# Altium schematic symbol library Conectores.SchLib: 6 symbols
Pins are listed as number, name and electrical type; pins without a type are passive.

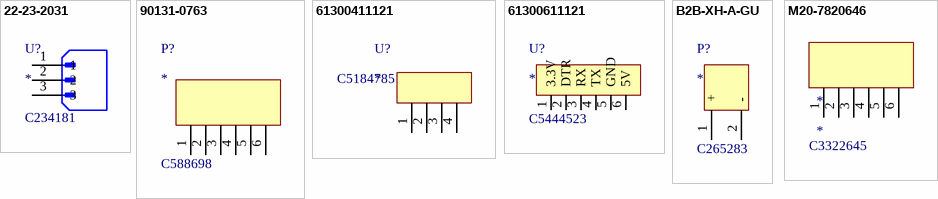
[diagram p0: symbols 22-23-2031 to M20-7820646]

## 22-23-2031
designator U?  LCSC: C234181
KK 254 Solid Header, Vertical, with Friction Lock, 3 Circuits, Tin (Sn) Plating, Bag; Manufacturer: Molex; Manufacturer Lifecycle Status: ACTIVE; Approvals: CSA, UL; Contact Resistance: 10mΩ; Current Rating: 4A; Dielectric Material: Polyamide; Gender: Male; Glow Wire Compliant: Non-compliant; Insulation Resistance: 1GΩ; Number of Circuits: 2; Number of Contacts: 3; Number of Lines: 1; Operating Force: 4.8928N; Pitch: 2.54mm; Plating Thickness: 2.54µm; Voltage Rating: 500V; Voltage Rating (DC): 250V; Supplier: DigiKey; Supplier Part Number: WM4201-ND; Manufacturer Part Number: 22-23-2031; RoHS: Compliant; Category: Headers and Wire Housings; Stock: 60929; Pricing: 1=0,22, 10=0,189, 100=0,1608, 500=0,1435, 2000=0,13012, 6000=0,12041, 10000=0,11614 (USD); China RoHS: Compliant; Color: White; Contact Gender: Male; Contact Material: Brass; Contact Plating: Tin; Country of Origin: US; Depth: 6.35mm; Flammability Rating: UL94 V-0; Halogen Free: Low Halogen; Height: 10mm; Housing Color: White; Housing Material: Nylon; Lead Free: Lead Free; Lead Pitch: 2.54mm; Length: 10mm; Lifecycle Status: Production; Max Current Rating: 4A; Max Operating Temperature: 75°C; Min Operating Temperature: 0°C; Mounting Technology: Through Hole; Pins: 3; Number of Poles: 3; Number of Positions: 3; Number of Rows: 1; Orientation: Vertical; Packaging: Bulk; Radiation Hardening: No; REACH SVHC: Yes; Schedule B: 8536694040, 8536694040|8536694040|8536694040|8536694040|8536694040|8536694040|8536694040|8536694040|8536694040|8536694040|8536694040|8536694040|8536694040|8536694040|8536694040|8536694040|8536694040|8536694040|8536694040|8536694040|8536694040|8536694040|8536694040|85; Terminal Pitch: 2.54mm; Termination: Solder; Width: 10mm; ComponentLink1URL: https://sigma.octopart.com:443/153641738/technical_drawing/Molex-22232031.pdf?src-supplier=Sager+Electronics; ComponentLink1Description: https://sigma.octopart.com:443/153641738/technical_drawing/Molex-22232031.pdf?src-supplier=Sager+Electronics; ComponentLink2URL: https://datasheet.octopart.com:443/0022232031-Molex-datasheet-164461539.pdf?src-supplier=Sager+Electronics; ComponentLink2Description: https://datasheet.octopart.com:443/0022232031-Molex-datasheet-164461539.pdf?src-supplier=Sager+Electronics; ComponentLink3URL: https://datasheet.octopart.com:443/22-23-2031-Molex-datasheet-10979265.pdf?src-supplier=Upverter; ComponentLink3Description: https://datasheet.octopart.com:443/22-23-2031-Molex-datasheet-10979265.pdf?src-supplier=Upverter; ComponentLink4URL: https://datasheet.octopart.com:443/22-23-2031-Molex-datasheet-8803345.pdf?src-supplier=Upverter; ComponentLink4Description: https://datasheet.octopart.com:443/22-23-2031-Molex-datasheet-8803345.pdf?src-supplier=Upverter; ComponentLink5URL: https://datasheet.octopart.com:443/022232031-Molex-datasheet-8349839.pdf?src-supplier=Upverter; ComponentLink5Description: https://datasheet.octopart.com:443/022232031-Molex-datasheet-8349839.pdf?src-supplier=Upverter; ComponentLink6URL: https://datasheet.octopart.com:443/22-23-2031-Molex-datasheet-137053720.pdf?src-supplier=IHS; ComponentLink6Description: https://datasheet.octopart.com:443/22-23-2031-Molex-datasheet-137053720.pdf?src-supplier=IHS; ComponentLink7URL: https://datasheet.octopart.com:443/A-6373-03A222-Molex-datasheet-11014486.pdf?src-supplier=IHS; ComponentLink7Description: https://datasheet.octopart.com:443/A-6373-03A222-Molex-datasheet-11014486.pdf?src-supplier=IHS; ComponentLink8URL: https://datasheet.octopart.com:443/22-23-2031-Molex-datasheet-13784869.pdf?src-supplier=Molex; ComponentLink8Description: https://datasheet.octopart.com:443/22-23-2031-Molex-datasheet-13784869.pdf?src-supplier=Molex; ComponentLink9URL: https://sigma.octopart.com:443/16295904/technical_drawing/Molex-22-23-2031.pdf?src-supplier=Molex; ComponentLink9Description: https://sigma.octopart.com:443/16295904/technical_drawing/Molex-22-23-2031.pdf?src-supplier=Molex; ComponentLink10URL: https://datasheet.octopart.com:443/22-23-2031-Molex-datasheet-154747105.pdf?src-supplier=Master+Electronics; ComponentLink10Description: https://datasheet.octopart.com:443/22-23-2031-Molex-datasheet-154747105.pdf?src-supplier=Master+Electronics; ComponentLink11URL: https://datasheet.octopart.com:443/22-23-2031-Molex-datasheet-101581837.pdf?src-supplier=Farnell; ComponentLink11Description: https://datasheet.octopart.com:443/22-23-2031-Molex-datasheet-101581837.pdf?src-supplier=Farnell; ComponentLink12URL: https://datasheet.octopart.com:443/22-23-2031-Molex-datasheet-6994.pdf?src-supplier=Farnell; ComponentLink12Description: https://datasheet.octopart.com:443/22-23-2031-Molex-datasheet-6994.pdf?src-supplier=Farnell; ComponentLink13URL: https://datasheet.octopart.com:443/22-23-2031-Molex-datasheet-15766289.pdf?src-supplier=Farnell; ComponentLink13Description: https://datasheet.octopart.com:443/22-23-2031-Molex-datasheet-15766289.pdf?src-supplier=Farnell; ComponentLink14URL: https://datasheet.octopart.com:443/22-23-2031-Molex-datasheet-11538079.pdf?src-supplier=Farnell; ComponentLink14Description: https://datasheet.octopart.com:443/22-23-2031-Molex-datasheet-11538079.pdf?src-supplier=Farnell; ComponentLink15URL: https://datasheet.octopart.com:443/22-23-2031-Molex-datasheet-21538527.pdf?src-supplier=Electro+Sonic; ComponentLink15Description: https://datasheet.octopart.com:443/22-23-2031-Molex-datasheet-21538527.pdf?src-supplier=Electro+Sonic; ComponentLink16URL: https://datasheet.octopart.com:443/22-23-2031-Molex-datasheet-62103463.pdf?src-supplier=Electro+Sonic; ComponentLink16Description: https://datasheet.octopart.com:443/22-23-2031-Molex-datasheet-62103463.pdf?src-supplier=Electro+Sonic; ComponentLink17URL: https://datasheet.octopart.com:443/22-23-2031-Molex-datasheet-37168844.pdf?src-supplier=Electro+Sonic; ComponentLink17Description: https://datasheet.octopart.com:443/22-23-2031-Molex-datasheet-37168844.pdf?src-supplier=Electro+Sonic; ComponentLink18URL: https://datasheet.octopart.com:443/22-23-2031-Molex-datasheet-26579529.pdf?src-supplier=TME; ComponentLink18Description: https://datasheet.octopart.com:443/22-23-2031-Molex-datasheet-26579529.pdf?src-supplier=TME; ComponentLink19URL: https://datasheet.octopart.com:443/22-23-2031-Molex-datasheet-140181014.pdf?src-supplier=RS+(Formerly+Allied+Electronics); ComponentLink19Description: https://datasheet.octopart.com:443/22-23-2031-Molex-datasheet-140181014.pdf?src-supplier=RS+(Formerly+Allied+Electronics); ComponentLink20URL: https://datasheet.octopart.com:443/22-23-2031-Molex-datasheet-120145304.pdf?src-supplier=RS+(Formerly+Allied+Electronics); ComponentLink20Description: https://datasheet.octopart.com:443/22-23-2031-Molex-datasheet-120145304.pdf?src-supplier=RS+(Formerly+Allied+Electronics); ComponentLink21URL: https://datasheet.octopart.com:443/22-23-2031-Molex-datasheet-9904594.pdf?src-supplier=RS+(Formerly+Allied+Electronics); ComponentLink21Description: https://datasheet.octopart.com:443/22-23-2031-Molex-datasheet-9904594.pdf?src-supplier=RS+(Formerly+Allied+Electronics); ComponentLink22URL: https://datasheet.octopart.com:443/22-23-2031-Molex-datasheet-36197.pdf?src-supplier=RS+(Formerly+Allied+Electronics); ComponentLink22Description: https://datasheet.octopart.com:443/22-23-2031-Molex-datasheet-36197.pdf?src-supplier=RS+(Formerly+Allied+Electronics); ComponentLink23URL: https://datasheet.octopart.com:443/22232031-Molex-datasheet-137316104.pdf?src-supplier=Future+Electronics; ComponentLink23Description: https://datasheet.octopart.com:443/22232031-Molex-datasheet-137316104.pdf?src-supplier=Future+Electronics; ComponentLink24URL: https://datasheet.octopart.com:443/22-23-2031-Molex-datasheet-33002316.pdf?src-supplier=Newark; ComponentLink24Description: https://datasheet.octopart.com:443/22-23-2031-Molex-datasheet-33002316.pdf?src-supplier=Newark; ComponentLink25URL: https://datasheet.octopart.com:443/22-23-2031-Molex-datasheet-21206926.pdf?src-supplier=Newark; ComponentLink25Description: https://datasheet.octopart.com:443/22-23-2031-Molex-datasheet-21206926.pdf?src-supplier=Newark; ComponentLink26URL: https://datasheet.octopart.com:443/0022232031-Molex-datasheet-11893140.pdf?src-supplier=Arrow+Electronics; ComponentLink26Description: https://datasheet.octopart.com:443/0022232031-Molex-datasheet-11893140.pdf?src-supplier=Arrow+Electronics; ComponentLink27URL: https://datasheet.octopart.com:443/0022232031-Molex-datasheet-11631538.pdf?src-supplier=Arrow+Electronics; ComponentLink27Description: https://datasheet.octopart.com:443/0022232031-Molex-datasheet-11631538.pdf?src-supplier=Arrow+Electronics; ComponentLink28URL: https://datasheet.octopart.com:443/22-23-2031-Molex-datasheet-8399138.pdf?src-supplier=Verical; ComponentLink28Description: https://datasheet.octopart.com:443/22-23-2031-Molex-datasheet-8399138.pdf?src-supplier=Verical; ComponentLink29URL: https://datasheet.octopart.com:443/22-23-2031-Molex-datasheet-8339045.pdf?src-supplier=Verical; ComponentLink29Description: https://datasheet.octopart.com:443/22-23-2031-Molex-datasheet-8339045.pdf?src-supplier=Verical; ComponentLink30URL: https://datasheet.octopart.com:443/22232031-Molex-datasheet-7831523.pdf?src-supplier=Jameco; ComponentLink30Description: https://datasheet.octopart.com:443/22232031-Molex-datasheet-7831523.pdf?src-supplier=Jameco; ComponentLink31URL: https://datasheet.octopart.com:443/22-23-2031-Molex-datasheet-7276997.pdf?src-supplier=Jameco; ComponentLink31Description: https://datasheet.octopart.com:443/22-23-2031-Molex-datasheet-7276997.pdf?src-supplier=Jameco; ComponentLink32URL: https://datasheet.octopart.com:443/22-23-2031-Molex-datasheet-145352.pdf?src-supplier=DigiKey; ComponentLink32Description: https://datasheet.octopart.com:443/22-23-2031-Molex-datasheet-145352.pdf?src-supplier=DigiKey; ComponentLink33URL: http://sigma.octopart.com:80/16297233/rohs_statement/Molex-22-23-2031.pdf?src-supplier=Compliance+Statements; ComponentLink33Description: http://sigma.octopart.com:80/16297233/rohs_statement/Molex-22-23-2031.pdf?src-supplier=Compliance+Statements; ComponentLink34URL: http://sigma.octopart.com:80/conflict_mineral_statement/Molex-company-72.pdf?src-supplier=Compliance+Statements; ComponentLink34Description: http://sigma.octopart.com:80/conflict_mineral_statement/Molex-company-72.pdf?src-supplier=Compliance+Statements; ComponentLink35URL: http://sigma.octopart.com:80/rohs_statement/Molex-company-73.pdf?src-supplier=Compliance+Statements; ComponentLink35Description: http://sigma.octopart.com:80/rohs_statement/Molex-company-73.pdf?src-supplier=Compliance+Statements; ComponentLink36URL: http://sigma.octopart.com:80/reach_statement/Molex-company-74.pdf?src-supplier=Compliance+Statements; ComponentLink36Description: http://sigma.octopart.com:80/reach_statement/Molex-company-74.pdf?src-supplier=Compliance+Statements
footprint conector3pinos
pins: 1, 2, 3

## 90131-0763
designator P?  LCSC: C588698
Conector STLINK; Manufacturer: Molex; Manufacturer Part Number: 90131-0763; Manufacturer Lifecycle Status: ACTIVE; Contact Resistance: 20mΩ; Current Rating: 3A; Gender: Male; Insulation Resistance: 5GΩ; Number of Circuits: 6; Operating Force: 973mN; Pitch: 2.54mm; Plating: Tin; Plating Thickness: 381nm; Voltage Rating: 350V; Supplier: DigiKey; Supplier Part Number: WM8139-ND; RoHS: Compliant; Category: Headers and Wire Housings; Stock: 9119; Pricing: 1=1,65, 10=1,4, 100=1,1895, 800=1,0271, 1600=0,97808, 5600=0,89539, 10400=0,85718 (USD); China RoHS: Compliant; Contact Gender: Male; Contact Material: Gold, Nickel; Contact Plating: Gold; Country of Origin: SG; Height: 9.65mm; Housing Color: Black; Housing Material: Polyester; Lead Free: Lead Free; Lead Pitch: 2.54mm; Lifecycle Status: Production; Material: Glass, Polyester; Max Operating Temperature: 125°C; Min Operating Temperature: -55°C; Mounting Technology: Through Hole; Number of Contacts: 6; Pins: 6; Number of Poles: 6; Number of Positions: 6; Number of Rows: 2; Orientation: Vertical; Radiation Hardening: No; REACH SVHC: Yes; Row Spacing: 2.54mm; Schedule B: 8536694040, 8536694040|8536694040|8536694040|8536694040|8536694040|8536694040|8536694040|8536694040|8536694040|8536694040|8536694040|8536694040|8536694040|8536694040|8536694040|8536694040|8536694040|8536694040|8536694040|8536694040|8536694040|8536694040|8536694040|85; Terminal Pitch: 2.54mm; Termination: Through Hole; Voltage Rating (AC): 350V; Voltage Rating (DC): 350V; Working Voltage: 350V; ComponentLink1URL: https://datasheet.octopart.com:443/90131-0763-Molex-datasheet-141422385.pdf?src-supplier=IHS; ComponentLink1Description: https://datasheet.octopart.com:443/90131-0763-Molex-datasheet-141422385.pdf?src-supplier=IHS; ComponentLink2URL: https://datasheet.octopart.com:443/90131-0763-Molex-datasheet-13786679.pdf?src-supplier=Sager+Electronics; ComponentLink2Description: https://datasheet.octopart.com:443/90131-0763-Molex-datasheet-13786679.pdf?src-supplier=Sager+Electronics; ComponentLink3URL: https://datasheet.octopart.com:443/0901310763-Molex-datasheet-158267589.pdf?src-supplier=Sager+Electronics; ComponentLink3Description: https://datasheet.octopart.com:443/0901310763-Molex-datasheet-158267589.pdf?src-supplier=Sager+Electronics; ComponentLink4URL: https://datasheet.octopart.com:443/90131-0763-Molex-datasheet-101584004.pdf?src-supplier=element14+APAC; ComponentLink4Description: https://datasheet.octopart.com:443/90131-0763-Molex-datasheet-101584004.pdf?src-supplier=element14+APAC; ComponentLink5URL: https://datasheet.octopart.com:443/90131-0763-Molex-datasheet-154760981.pdf?src-supplier=Master+Electronics; ComponentLink5Description: https://datasheet.octopart.com:443/90131-0763-Molex-datasheet-154760981.pdf?src-supplier=Master+Electronics; ComponentLink6URL: https://datasheet.octopart.com:443/90131-0763-Molex-datasheet-140189868.pdf?src-supplier=RS+(Formerly+Allied+Electronics); ComponentLink6Description: https://datasheet.octopart.com:443/90131-0763-Molex-datasheet-140189868.pdf?src-supplier=RS+(Formerly+Allied+Electronics); ComponentLink7URL: https://datasheet.octopart.com:443/90131-0763-Molex-datasheet-120158967.pdf?src-supplier=RS+(Formerly+Allied+Electronics); ComponentLink7Description: https://datasheet.octopart.com:443/90131-0763-Molex-datasheet-120158967.pdf?src-supplier=RS+(Formerly+Allied+Electronics); ComponentLink8URL: https://datasheet.octopart.com:443/90131-0763-Molex-datasheet-34442414.pdf?src-supplier=RS+(Formerly+Allied+Electronics); ComponentLink8Description: https://datasheet.octopart.com:443/90131-0763-Molex-datasheet-34442414.pdf?src-supplier=RS+(Formerly+Allied+Electronics); ComponentLink9URL: https://datasheet.octopart.com:443/90131-0763-Molex-datasheet-62106567.pdf?src-supplier=Electro+Sonic; ComponentLink9Description: https://datasheet.octopart.com:443/90131-0763-Molex-datasheet-62106567.pdf?src-supplier=Electro+Sonic; ComponentLink10URL: https://datasheet.octopart.com:443/90131-0763-Molex-datasheet-37173065.pdf?src-supplier=Electro+Sonic; ComponentLink10Description: https://datasheet.octopart.com:443/90131-0763-Molex-datasheet-37173065.pdf?src-supplier=Electro+Sonic; ComponentLink11URL: https://datasheet.octopart.com:443/90131-0763-Molex-datasheet-23711474.pdf?src-supplier=Electro+Sonic; ComponentLink11Description: https://datasheet.octopart.com:443/90131-0763-Molex-datasheet-23711474.pdf?src-supplier=Electro+Sonic; ComponentLink12URL: https://datasheet.octopart.com:443/90131-0763-Molex-datasheet-33004657.pdf?src-supplier=Newark; ComponentLink12Description: https://datasheet.octopart.com:443/90131-0763-Molex-datasheet-33004657.pdf?src-supplier=Newark; ComponentLink13URL: https://datasheet.octopart.com:443/90131-0763-Molex-datasheet-13548877.pdf?src-supplier=Farnell; ComponentLink13Description: https://datasheet.octopart.com:443/90131-0763-Molex-datasheet-13548877.pdf?src-supplier=Farnell; ComponentLink14URL: https://datasheet.octopart.com:443/90131-0763-Molex-datasheet-10978908.pdf?src-supplier=Farnell; ComponentLink14Description: https://datasheet.octopart.com:443/90131-0763-Molex-datasheet-10978908.pdf?src-supplier=Farnell; ComponentLink15URL: https://datasheet.octopart.com:443/90131-0763-Molex-datasheet-531206.pdf?src-supplier=Farnell; ComponentLink15Description: https://datasheet.octopart.com:443/90131-0763-Molex-datasheet-531206.pdf?src-supplier=Farnell; ComponentLink16URL: https://datasheet.octopart.com:443/90131-0763-Molex-datasheet-5392624.pdf?src-supplier=Verical; ComponentLink16Description: https://datasheet.octopart.com:443/90131-0763-Molex-datasheet-5392624.pdf?src-supplier=Verical; ComponentLink17URL: https://datasheet.octopart.com:443/90131-0763-Molex-datasheet-124887.pdf?src-supplier=DigiKey; ComponentLink17Description: https://datasheet.octopart.com:443/90131-0763-Molex-datasheet-124887.pdf?src-supplier=DigiKey; ComponentLink18URL: http://sigma.octopart.com:80/conflict_mineral_statement/Molex-company-72.pdf?src-supplier=Compliance+Statements; ComponentLink18Description: http://sigma.octopart.com:80/conflict_mineral_statement/Molex-company-72.pdf?src-supplier=Compliance+Statements; ComponentLink19URL: http://sigma.octopart.com:80/rohs_statement/Molex-company-73.pdf?src-supplier=Compliance+Statements; ComponentLink19Description: http://sigma.octopart.com:80/rohs_statement/Molex-company-73.pdf?src-supplier=Compliance+Statements; ComponentLink20URL: http://sigma.octopart.com:80/reach_statement/Molex-company-74.pdf?src-supplier=Compliance+Statements; ComponentLink20Description: http://sigma.octopart.com:80/reach_statement/Molex-company-74.pdf?src-supplier=Compliance+Statements
footprint conector6pinos2linhas
pins: 1, 2, 3, 4, 5, 6

## 61300411121
designator U?  LCSC: C5184785
Led RGB; Manufacturer: Wurth Elektronik; Manufacturer Part Number: 61300411121; Connector Type: Male Pin; Contact Resistance: 20mΩ; Current Rating: 3A; Gender: Male; Number of Contacts: 4; Operating Supply Voltage: 250V; Pitch: 2.54mm; Supplier: DigiKey; Supplier Part Number: 732-5317-ND; RoHS: Compliant; Category: Headers and Wire Housings; Stock: 89389; Pricing: 1=0,17, 10=0,147, 25=0,1216, 50=0,1018, 100=0,0918, 1000=0,085 (USD); Color: Black; Contact Material: Gold; Contact Mating Length: 5.9944mm; Contact Plating: Gold; Height: 8.89mm; Lead Free: Lead Free; Lead Pitch: 2.54mm; Max Operating Temperature: 105°C; Min Operating Temperature: -40°C; Mounting Technology: Through Hole; Pins: 4; Number of Positions: 4; Number of Rows: 1; Orientation: Vertical; Packaging: Bulk; Termination: Solder; Voltage Rating: 250V; ComponentLink1URL: https://datasheet.octopart.com:443/61300411121-W%C3%BCrth-Elektronik-datasheet-44382959.pdf?src-supplier=Future+Electronics; ComponentLink1Description: https://datasheet.octopart.com:443/61300411121-W%C3%BCrth-Elektronik-datasheet-44382959.pdf?src-supplier=Future+Electronics; ComponentLink2URL: https://datasheet.octopart.com:443/61300411121-W%C3%BCrth-Elektronik-datasheet-149524049.pdf?src-supplier=Farnell; ComponentLink2Description: https://datasheet.octopart.com:443/61300411121-W%C3%BCrth-Elektronik-datasheet-149524049.pdf?src-supplier=Farnell; ComponentLink3URL: https://datasheet.octopart.com:443/61300411121-W%C3%BCrth-Elektronik-datasheet-21154836.pdf?src-supplier=element14+APAC; ComponentLink3Description: https://datasheet.octopart.com:443/61300411121-W%C3%BCrth-Elektronik-datasheet-21154836.pdf?src-supplier=element14+APAC; ComponentLink4URL: https://datasheet.octopart.com:443/61300411121-Wurth-Elektronik-datasheet-169474491.pdf?src-supplier=RS+(Formerly+Allied+Electronics); ComponentLink4Description: https://datasheet.octopart.com:443/61300411121-Wurth-Elektronik-datasheet-169474491.pdf?src-supplier=RS+(Formerly+Allied+Electronics)
footprint conector4pinos
pins: 1 +, 2 R, 3 G, 4 B

## 61300611121
designator U?  LCSC: C5444523
Modulo modulo CP2102 USB para UART; Manufacturer: Wurth Elektronik; Manufacturer Part Number: 61300611121; Connector Type: Male Pin; Contact Resistance: 20mΩ; Current Rating: 3A; Gender: Male; Number of Contacts: 6; Operating Supply Voltage: 250V; Pitch: 2.54mm; Supplier: DigiKey; Supplier Part Number: 732-5319-ND; RoHS: Compliant; Category: Headers and Wire Housings; Stock: 47929; Pricing: 1=0,31, 10=0,268, 25=0,2224, 50=0,1864, 100=0,1683, 1000=0,1539 (USD); Color: Black; Contact Gender: Male; Contact Material: Gold; Contact Mating Length: 5.9944mm; Contact Plating: Gold; Height: 8.89mm; Housing Material: PBT; Lead Free: Lead Free; Lead Pitch: 2.54mm; Max Operating Temperature: 105°C; Min Operating Temperature: -40°C; Mounting Technology: Through Hole; Pins: 6; Number of Positions: 6; Number of Rows: 1; Orientation: Vertical; Packaging: Bulk; Termination: Through Hole; Voltage Rating: 250V; ComponentLink1URL: https://datasheet.octopart.com:443/61300611121-W%C3%BCrth-Elektronik-datasheet-44382959.pdf?src-supplier=Future+Electronics; ComponentLink1Description: https://datasheet.octopart.com:443/61300611121-W%C3%BCrth-Elektronik-datasheet-44382959.pdf?src-supplier=Future+Electronics; ComponentLink2URL: https://datasheet.octopart.com:443/61300611121-W%C3%BCrth-Elektronik-datasheet-149524072.pdf?src-supplier=Farnell; ComponentLink2Description: https://datasheet.octopart.com:443/61300611121-W%C3%BCrth-Elektronik-datasheet-149524072.pdf?src-supplier=Farnell; ComponentLink3URL: https://datasheet.octopart.com:443/61300611121-Wurth-Elektronik-datasheet-181533275.pdf?src-supplier=Farnell; ComponentLink3Description: https://datasheet.octopart.com:443/61300611121-Wurth-Elektronik-datasheet-181533275.pdf?src-supplier=Farnell; ComponentLink4URL: https://datasheet.octopart.com:443/61300611121-W%C3%BCrth-Elektronik-datasheet-21154836.pdf?src-supplier=element14+APAC; ComponentLink4Description: https://datasheet.octopart.com:443/61300611121-W%C3%BCrth-Elektronik-datasheet-21154836.pdf?src-supplier=element14+APAC
footprint conector6pinos
pins: 1 3.3V, 2 DTR, 3 RX, 4 TX, 5 GND, 6 5V

## B2B-XH-A-GU
designator P?  LCSC: C265283
Conector 2 pinos; Manufacturer: JST; Manufacturer Part Number: B2B-XH-A-GU; Connector Type: Male Pin; Number of Positions: 2; Pitch: 2.4892mm; Supplier: DigiKey; Supplier Part Number: 455-2946-ND; Category: Headers and Wire Housings; Stock: 16934; Pricing: 1=0,25, 10=0,212, 100=0,1804, 500=0,16102, 1000=0,15333, 5000=0,13685, 10000=0,13032 (USD); Color: Natural; Contact Gender: Male; Contact Material: Brass; Contact Plating: Tin; Fastening Type: Detent; Lead Free: Lead Free; Lifecycle Status: Production; Mounting Technology: Through Hole; Pins: 2; Number of Rows: 1; RoHS: Non-Compliant; Terminal Pitch: 2.5mm; Termination: Press-Fit; ComponentLink1URL: https://datasheet.octopart.com:443/B2B-XH-A-GU-JST-datasheet-12510042.pdf?src-supplier=IHS; ComponentLink1Description: https://datasheet.octopart.com:443/B2B-XH-A-GU-JST-datasheet-12510042.pdf?src-supplier=IHS; ComponentLink2URL: https://datasheet.octopart.com:443/B2B-XH-A-GU-JST-datasheet-140264791.pdf?src-supplier=LKR; ComponentLink2Description: https://datasheet.octopart.com:443/B2B-XH-A-GU-JST-datasheet-140264791.pdf?src-supplier=LKR; ComponentLink3URL: https://datasheet.octopart.com:443/B2B-XH-A-GU-JST-datasheet-8325564.pdf?src-supplier=Future+Electronics; ComponentLink3Description: https://datasheet.octopart.com:443/B2B-XH-A-GU-JST-datasheet-8325564.pdf?src-supplier=Future+Electronics
footprint conector2.54mm
pins: 1 +, 2 -

## M20-7820646
designator *  LCSC: C3322645
Conn Socket Strip Receptacle 6 Position 2.54mm Solder Straight Through Hole Tube; Manufacturer: Harwin; Manufacturer Part Number: M20-7820646; Connector Type: Receptacle, Socket; Contact Resistance: 20mΩ; Current Rating: 3A; Dielectric Material: Polyamide; Gender: Female; Insulation Resistance: 1GΩ; Number of Contacts: 6; Supplier: DigiKey; Supplier Part Number: 952-1809-ND; RoHS: Compliant; Category: Card Edge Connectors; Stock: 414; Pricing: 1=1,11, 36=0,86417, 108=0,79954, 504=0,7171, 1008=0,68287, 5004=0,60989, 10008=0,58081 (USD); Case/Package: SIL; Color: Black; Contact Gender: Female; Contact Material: Bronze; Contact Plating: Tin; Depth: 2.5mm; Housing Color: Black; Housing Material: Nylon; Length: 15.64mm; Lifecycle Status: Production; Max Current Rating: 3A; Max Operating Temperature: 105°C; Min Operating Temperature: -40°C; Mounting Technology: Through Hole; Pins: 6; Number of Positions: 6; Number of Rows: 1; Orientation: Straight; Pitch: 2.54mm; Radiation Hardening: No; REACH SVHC: Yes; Terminal Pitch: 2.54mm; Termination: Solder; ComponentLink1URL: https://datasheet.octopart.com:443/M20-7820646-Harwin-datasheet-176383844.pdf?src-supplier=Newark; ComponentLink1Description: https://datasheet.octopart.com:443/M20-7820646-Harwin-datasheet-176383844.pdf?src-supplier=Newark; ComponentLink2URL: https://datasheet.octopart.com:443/M20-7820646-Harwin-datasheet-99119574.pdf?src-supplier=Farnell; ComponentLink2Description: https://datasheet.octopart.com:443/M20-7820646-Harwin-datasheet-99119574.pdf?src-supplier=Farnell; ComponentLink3URL: https://datasheet.octopart.com:443/M20-7820646-Harwin-datasheet-188872139.pdf?src-supplier=TME; ComponentLink3Description: https://datasheet.octopart.com:443/M20-7820646-Harwin-datasheet-188872139.pdf?src-supplier=TME; ComponentLink4URL: https://datasheet.octopart.com:443/M20-7820646-Harwin-datasheet-137074310.pdf?src-supplier=X-ON; ComponentLink4Description: https://datasheet.octopart.com:443/M20-7820646-Harwin-datasheet-137074310.pdf?src-supplier=X-ON; ComponentLink5URL: http://sigma.octopart.com:80/15888285/rohs_statement/Harwin-M20-7820646.pdf?src-supplier=Compliance+Statements; ComponentLink5Description: http://sigma.octopart.com:80/15888285/rohs_statement/Harwin-M20-7820646.pdf?src-supplier=Compliance+Statements
footprint 6pinFemea
pins: 1, 2, 3, 4, 5, 6